# EAGLE library part MPL3115A2 (library Sensor)
IC ALTIMETER I2C VERSION 8LGA Manufacturer's datasheet <https://media.digikey.com/pdf/Data%20Sheets/NXP%20PDFs/MPL3115A2.pdf>
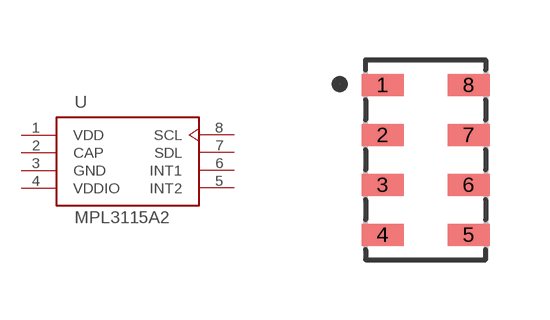
[diagram p9: symbol with the pads of LGA-8; footprint LGA-8]

Designator prefix U

## MPL3115A2 (CREATED_BY: PCBLayout.com; DIGI_KEY_PART_NUMBER: MPL3115A2-ND; MANUFACTURER: NXP USA Inc.; MPN: MPL3115A2; PACKAGE: 8-TLGA)  [LGA-8]
1  VDD  pwr
2  CAP  pas
3  GND  pwr
4  VDDIO  pwr
5  INT2  pas
6  INT1  pas
7  SDL  pas
8  SCL  pas

## Footprint LGA-8 (pad centres in mm)
smd 1.05 x 0.55: 1 -1.075,1.875; 2 -1.075,0.625; 3 -1.075,-0.625; 4 -1.075,-1.875; 5 1.075,-1.875; 6 1.075,-0.625; 7 1.075,0.625; 8 1.075,1.875